# EAGLE library part RELAY-HFD4 (library Discrete)
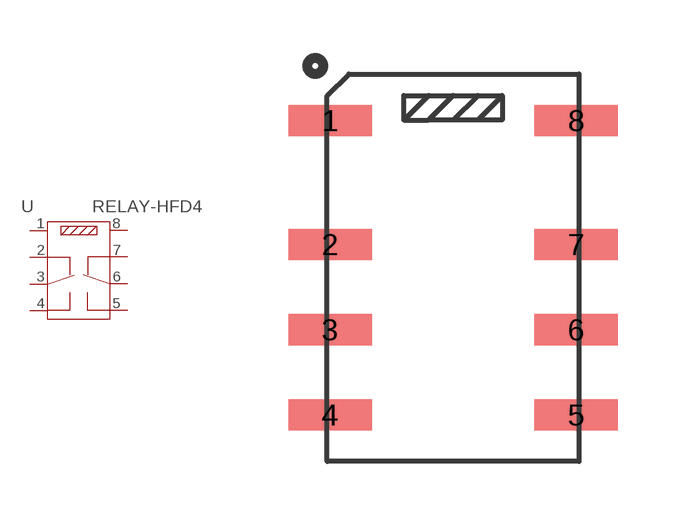
[diagram p12: symbol with the pads of 8P-SMD-10X6.5; footprint 8P-SMD-10X6.5]

Designator prefix U

## RELAY-HFD4  [8P-SMD-10X6.5]
1  1
2  2
3  3
4  4
5  5
6  6
7  7
8  8

## Footprint 8P-SMD-10X6.5 (pad centres in mm)
smd 2.15 x 0.8: 1 -3.175,3.8; 2 -3.175,0.6; 3 -3.175,-1.6; 4 -3.175,-3.8; 5 3.175,-3.8; 6 3.175,-1.6; 7 3.175,0.6; 8 3.175,3.8